# Altium footprint library Mounting holes.PcbLib: 26 footprints (part 2 of 2)
Each footprint in its own frame and in the unit in brackets; x right, y up, seen from the top. Pads: shape width x height; smd on the part's side, far side on the other; paste and mask are expansions set on the pad; w line width, h text height; cw(c..) or ccw(c..) is an arc to the next point about the centre after c.
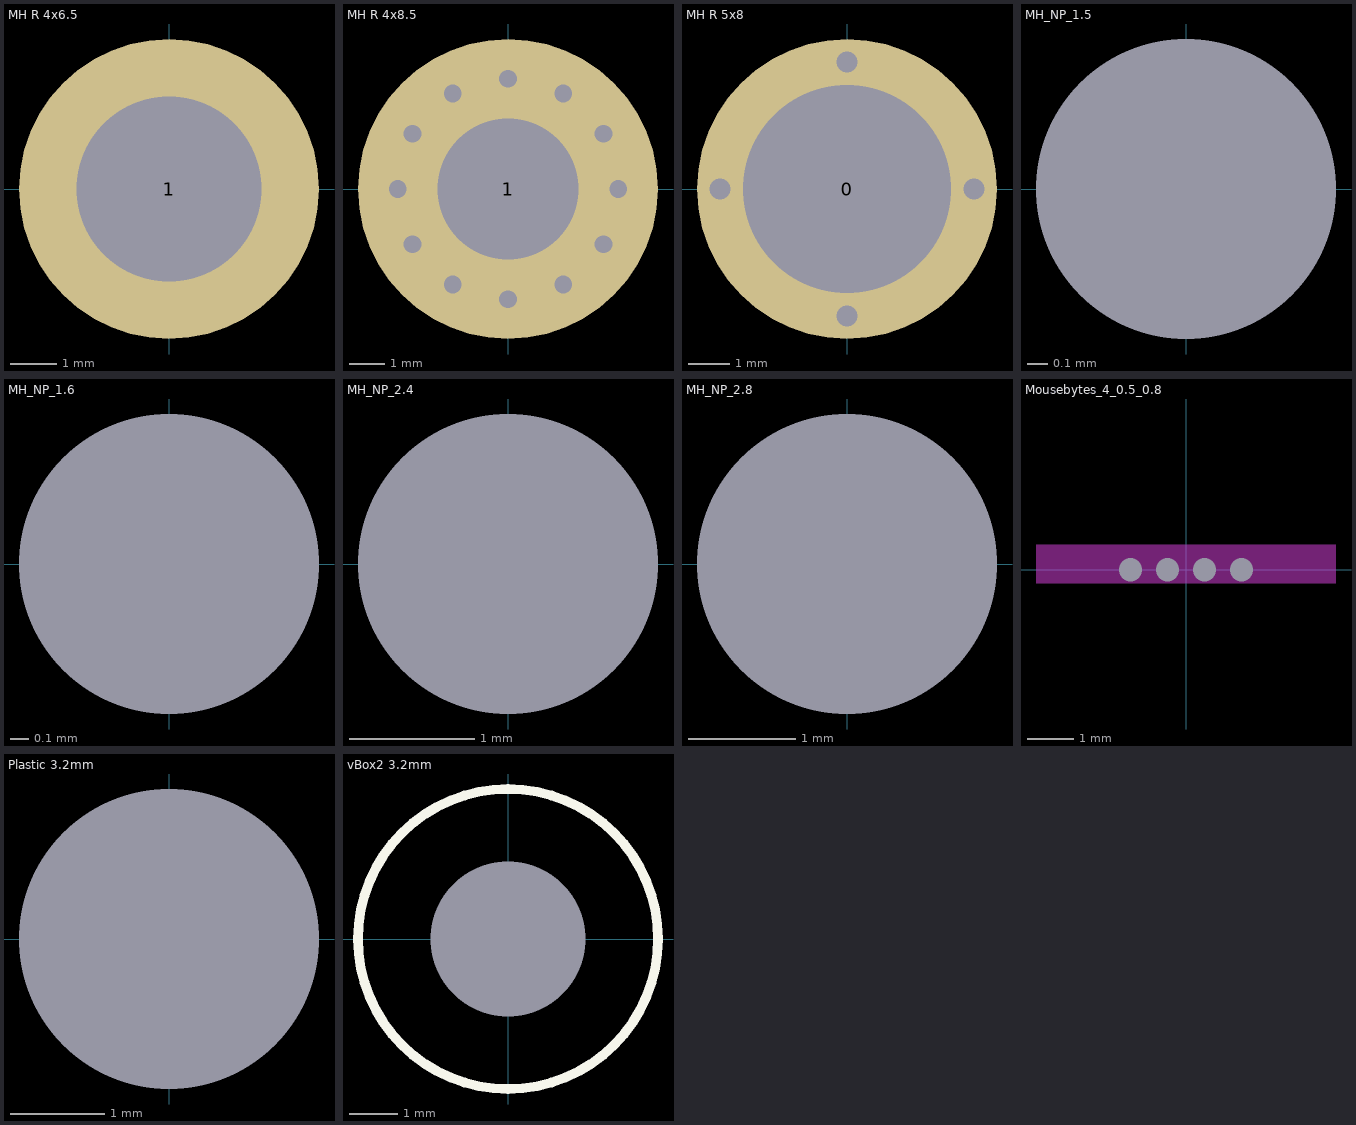
[diagram p1: the footprints below, top view; thin cyan lines are the x and y axes]

## MH R 4x6.5 [mm] "MH R 4x6.5"
pads (1):
  round 6.5 hole 4: 1(0,0)

## MH R 4x8.5 [mm] "MH R 4x8.5"
pads (1):
  round 8.5 hole 4: 1(0,0)
via -2.706,-1.562 diameter 1 hole 0.5
via -2.706,1.562 diameter 1 hole 0.5
via 2.706,-1.562 diameter 1 hole 0.5
via 2.706,1.562 diameter 1 hole 0.5
via 0,-3.125 diameter 1 hole 0.5
via 0,3.125 diameter 1 hole 0.5
via -3.125,0 diameter 1 hole 0.5
via 3.125,0 diameter 1 hole 0.5
via 1.562,2.706 diameter 1 hole 0.5
via -1.562,2.706 diameter 1 hole 0.5
via -1.562,-2.706 diameter 1 hole 0.5
via 1.562,-2.706 diameter 1 hole 0.5

## MH R 5x8 [mm] "MH R 5x8"
pads (1):
  round 7.2 hole 5: 0(0,0)
via 0,3.048 diameter 0.6 hole 0.5
via 0,-3.048 diameter 0.6 hole 0.5
via 3.048,0 diameter 0.6 hole 0.5
via -3.048,0 diameter 0.6 hole 0.5

## MH_NP_1.5 [mm] "Non plated mounting hole 1.5mm"
pads (1):
  round 0 hole 1.5 unplated: 0(0,0)

## MH_NP_1.6 [mm] "Non plated mounting hole 1.6mm"
pads (1):
  round 0 hole 1.6 unplated: 0(0,0)

## MH_NP_2.4 [mm] "Non plated mounting hole 2.4mm"
pads (1):
  round 0 hole 2.4 unplated: 0(0,0)

## MH_NP_2.8 [mm] "Non plated mounting hole 2.8mm"
pads (1):
  round 0 hole 2.8 unplated: 0(0,0)

## Mousebytes_4_0.5_0.8 [mm] "4x0.5mm, p0.8mm"
pads (4):
  round 0 hole 0.5 unplated: 0(-1.2,0) 1(-0.4,0) 2(0.4,0) 3(1.2,0)
Keep-Out Layer:
  rectangle: -3.25,-0.3 3.25,0.55

## Plastic 3.2mm [mm]
pads (1):
  rect 0x0 hole 3.2 unplated: 1(0,0)

## vBox2 3.2mm [mm]
pads (1):
  rect 0x0 hole 3.2 unplated: 1(0,0)
Top Overlay:
  circle w0.2: c0,0 r3.1